# Altium footprint library BEADC_0805_M2012.PcbLib: 1 footprints
Each footprint in its own frame and in the unit in brackets; x right, y up, seen from the top. Pads: shape width x height; smd on the part's side, far side on the other; paste and mask are expansions set on the pad; w line width, h text height; cw(c..) or ccw(c..) is an arc to the next point about the centre after c.
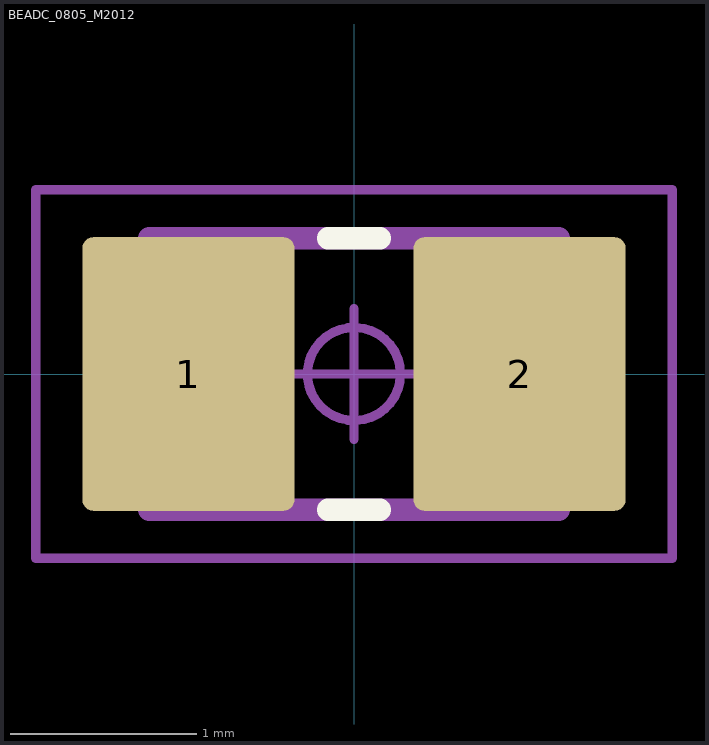
[diagram p0: the footprint, top view; thin cyan lines are the x and y axes]

## BEADC_0805_M2012 [mm] "Ferrite Bead, Chip; 2.00 mm L X 1.25 mm W X 1.45 mm H body"
pads (2):
  rrect10% 1.14x1.47 smd: 1(-0.89,0) 2(0.89,0)
Top Overlay:
  lines w0.12: -0.14,-0.73 0.14,-0.73 ; -0.14,0.73 0.14,0.73
Mechanical 11:
  lines w0.12: -1.1,-0.73 1.1,-0.73 1.1,0.73 -1.1,0.73 -1.1,-0.73
  text ".Designator" at -2.252,-0.226 h1
Mechanical 15:
  circle w0.05: c0,0 r0.25
  lines w0.05: -0.35,0 0.35,0 ; 0,-0.35 0,0.35 ; -1.71,-0.99 1.71,-0.99 1.71,0.99 -1.71,0.99 -1.71,-0.99
3D body "BEADC_0805_M2012.STEP": height 1.45, standoff 0, extent -1.1,-0.725 1.1,0.725